# Altium footprint library XH2.54.PcbLib: 1 footprints
Each footprint in its own frame and in the unit in brackets; x right, y up, seen from the top. Pads: shape width x height; smd on the part's side, far side on the other; paste and mask are expansions set on the pad; w line width, h text height; cw(c..) or ccw(c..) is an arc to the next point about the centre after c.
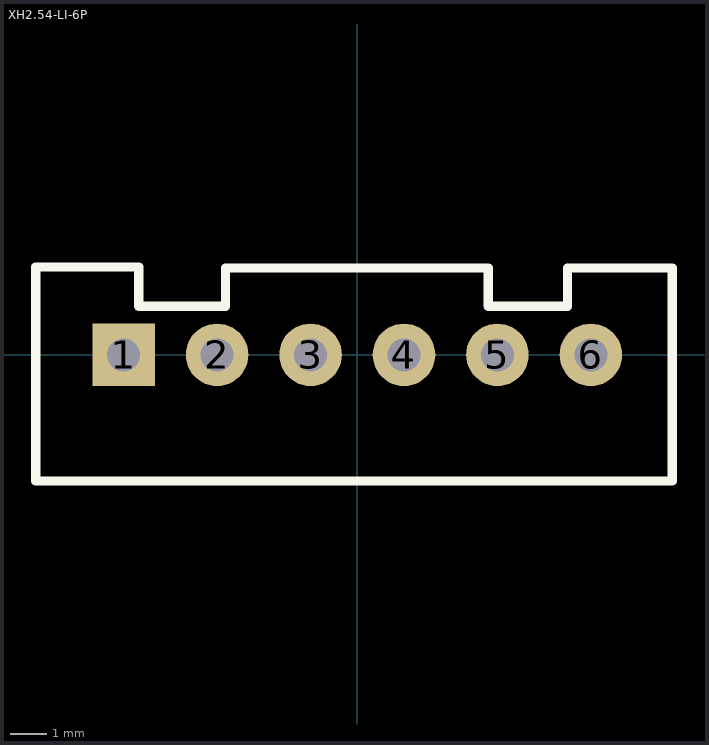
[diagram p0: the footprint, top view; thin cyan lines are the x and y axes]

## XH2.54-LI-6P [mm] "接插件，6P"
pads (6):
  rect 1.7x1.7 hole 0.9: 1(-6.35,0)
  round 1.7 hole 0.9: 2(-3.81,0) 3(-1.27,0) 4(1.27,0) 5(3.81,0) 6(6.35,0)
Top Overlay:
  lines w0.254: -8.738,-3.429 -8.738,2.388 -5.944,2.388 -5.944,1.321 -3.581,1.321 -3.581,2.362 3.556,2.362 3.556,1.321 5.715,1.321 5.715,2.362 8.56,2.362 8.56,-3.429 -8.738,-3.429
3D body "XH2.54-6P.STEP": height 7.03, standoff -2.47, extent -8.85,-3.3 8.85,2.4